# EAGLE library part MBH7BLZ02 (library MBH7BLZ02)
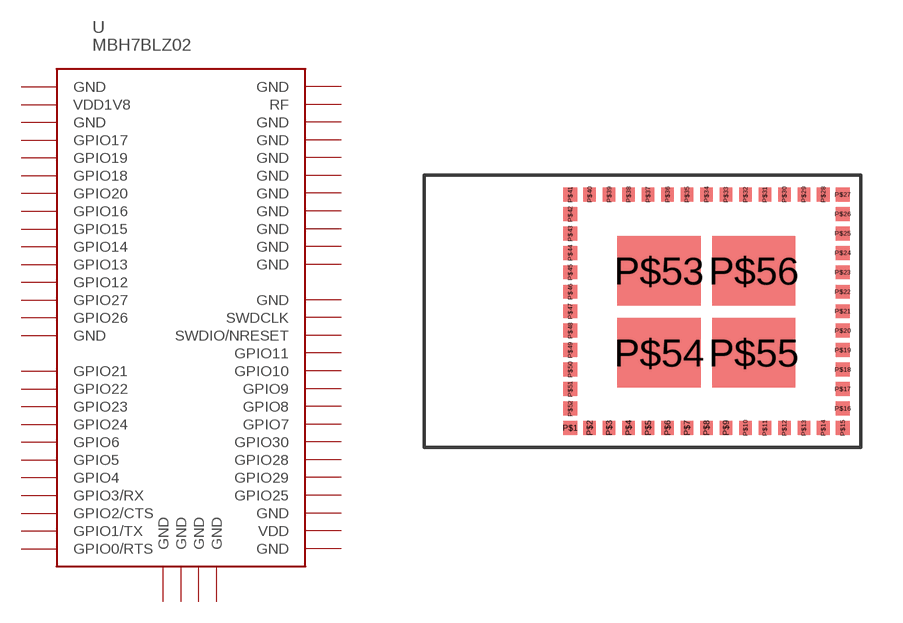
[diagram p0: symbol with the pads of MBH7BLZ02; footprint MBH7BLZ02]

Designator prefix -

## MBH7BLZ02  [MBH7BLZ02]
P$1  GND
P$2  VDD1V8
P$3  GND
P$4  GPIO17
P$5  GPIO19
P$6  GPIO18
P$7  GPIO20
P$8  GPIO16
P$9  GPIO15
P$10  GPIO14
P$11  GPIO13
P$12  GPIO12
P$13  GPIO27
P$14  GPIO26
P$15  GND
P$16  GPIO21
P$17  GPIO22
P$18  GPIO23
P$19  GPIO24
P$20  GPIO6
P$21  GPIO5
P$22  GPIO4
P$23  GPIO3/RX
P$24  GPIO2/CTS
P$25  GPIO1/TX
P$26  GPIO0/RTS
P$27  GND
P$28  VDD
P$29  GND
P$30  GPIO25
P$31  GPIO29
P$32  GPIO28
P$33  GPIO30
P$34  GPIO7
P$35  GPIO8
P$36  GPIO9
P$37  GPIO10
P$38  GPIO11
P$39  SWDIO/NRESET
P$40  SWDCLK
P$41  GND
P$42  GND
P$43  GND
P$44  GND
P$45  GND
P$46  GND
P$47  GND
P$48  GND
P$49  GND
P$50  GND
P$51  RF
P$52  GND
P$53  GND
P$54  GND
P$55  GND
P$56  GND

## Footprint MBH7BLZ02 (pad centres in mm)
smd 0.5 x 0.5: P$1 -4.9,-4.2; P$15 4.9,-4.2; P$16 4.9,-3.5; P$17 4.9,-2.8; P$18 4.9,-2.1; P$19 4.9,-1.4; P$20 4.9,-0.7; P$21 4.9,0; P$22 4.9,0.7; P$23 4.9,1.4; P$24 4.9,2.1; P$25 4.9,2.8; P$26 4.9,3.5; P$27 4.9,4.2; P$41 -4.9,4.2; P$42 -4.9,3.5; P$43 -4.9,2.8; P$44 -4.9,2.1; P$45 -4.9,1.4; P$46 -4.9,0.7; P$47 -4.9,0; P$48 -4.9,-0.7; P$49 -4.9,-1.4; P$50 -4.9,-2.1; P$51 -4.9,-2.8; P$52 -4.9,-3.5
smd 0.45 x 0.5: P$2 -4.2,-4.2; P$3 -3.5,-4.2; P$4 -2.8,-4.2; P$5 -2.1,-4.2; P$6 -1.4,-4.2; P$7 -0.7,-4.2; P$8 0,-4.2; P$9 0.7,-4.2; P$10 1.4,-4.2; P$11 2.1,-4.2; P$12 2.8,-4.2; P$13 3.5,-4.2; P$14 4.2,-4.2; P$28 4.2,4.2; P$29 3.5,4.2; P$30 2.8,4.2; P$31 2.1,4.2; P$32 1.4,4.2; P$33 0.7,4.2; P$34 0,4.2; P$35 -0.7,4.2; P$36 -1.4,4.2; P$37 -2.1,4.2; P$38 -2.8,4.2; P$39 -3.5,4.2; P$40 -4.2,4.2
smd 3 x 2.5: P$53 -1.7,1.45; P$54 -1.7,-1.5; P$55 1.7,-1.5; P$56 1.7,1.45